# Altium integrated library Capacitors - Ceramic - 01005.IntLib: 571 symbols (part 3 of 13)
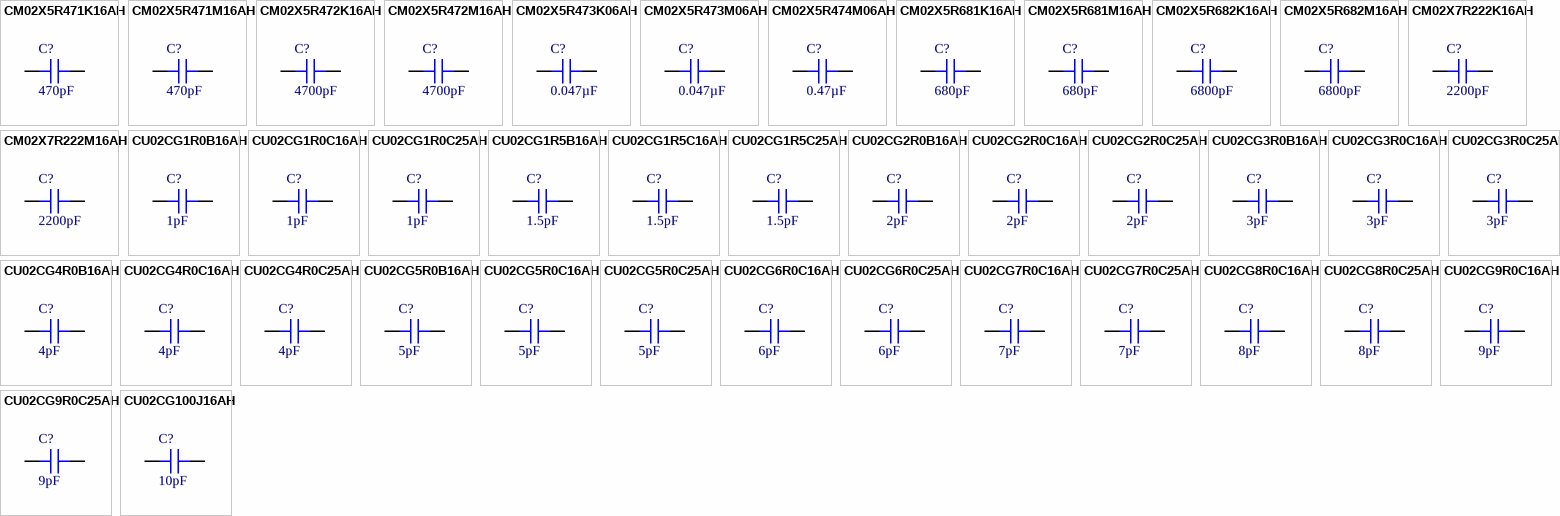
[diagram p16: symbols CM02X5R471K16AH to CU02CG100J16AH]

## CU02CG1R5B16AH
designator C?, comment 1.5pF
CAP CER 1.5PF 16V C0G 01005; Part Number: CU02CG1R5B16AH; Manufacturer: Kyocera International Inc. Electronic Components; Temperature Coefficient: C0G, NP0; Tolerance: ±0.1pF; Value: 1.5pF; Applications: RF, Microwave, High Frequency; Capacitance: 1.5pF; ComponentLink1Description: Datasheet; ComponentLink1URL: https://global.kyocera.com/prdct/electro/product/pdf/cm_e.pdf; ComponentLink2Description: DigiKey Link; ComponentLink2URL: http://digikey.com/product-detail/en/kyocera-international-inc-electronic-components/CU02CG1R5B16AH/1253-CU02CG1R5B16AHCT-ND/11564043; Device Package: 01005 (0402 Metric); Features: High Q, Low Loss; LastUpdated: 9/2/2020 1:27:42 AM; Lifecycle Status: Active; Minimum Order: 1; Mounting Type: Surface Mount, MLCC; Operating Temperature: -55°C ~ 125°C; Package / Case: 01005 (0402 Metric); Packaging: TapeAndReel; Part Status: Active; Price: 0.02; Series: CU; Supplier 1: DigiKey; Supplier Part Number 1: 1253-CU02CG1R5B16AHCT-ND; Voltage - Rated: 16V
footprint CAP 01005_0402
pins: 1, 2

## CU02CG1R5C16AH
designator C?, comment 1.5pF
CAP CER 1.5PF 16V C0G 01005; Part Number: CU02CG1R5C16AH; Manufacturer: Kyocera International Inc. Electronic Components; Temperature Coefficient: C0G, NP0; Tolerance: ±0.25pF; Value: 1.5pF; Applications: RF, Microwave, High Frequency; Capacitance: 1.5pF; ComponentLink1Description: Datasheet; ComponentLink1URL: https://global.kyocera.com/prdct/electro/product/pdf/cm_e.pdf; ComponentLink2Description: DigiKey Link; ComponentLink2URL: http://digikey.com/product-detail/en/kyocera-international-inc-electronic-components/CU02CG1R5C16AH/1253-CU02CG1R5C16AHCT-ND/11564116; Device Package: 01005 (0402 Metric); Features: High Q, Low Loss; LastUpdated: 9/2/2020 1:27:41 AM; Lifecycle Status: Active; Minimum Order: 1; Mounting Type: Surface Mount, MLCC; Operating Temperature: -55°C ~ 125°C; Package / Case: 01005 (0402 Metric); Packaging: TapeAndReel; Part Status: Active; Price: 0.01; Series: CU; Supplier 1: DigiKey; Supplier Part Number 1: 1253-CU02CG1R5C16AHCT-ND; Voltage - Rated: 16V
footprint CAP 01005_0402
pins: 1, 2

## CU02CG1R5C25AH
designator C?, comment 1.5pF
CAP CER 1.5PF 25V C0G 01005; Part Number: CU02CG1R5C25AH; Manufacturer: Kyocera International Inc. Electronic Components; Temperature Coefficient: C0G, NP0; Tolerance: ±0.25pF; Value: 1.5pF; Applications: RF, Microwave, High Frequency; Capacitance: 1.5pF; ComponentLink1Description: Datasheet; ComponentLink1URL: https://global.kyocera.com/prdct/electro/product/pdf/cm_e.pdf; ComponentLink2Description: DigiKey Link; ComponentLink2URL: http://digikey.com/product-detail/en/kyocera-international-inc-electronic-components/CU02CG1R5C25AH/1253-CU02CG1R5C25AHCT-ND/11564155; Device Package: 01005 (0402 Metric); Features: High Q, Low Loss; LastUpdated: 9/2/2020 1:27:41 AM; Lifecycle Status: Active; Minimum Order: 1; Mounting Type: Surface Mount, MLCC; Operating Temperature: -55°C ~ 125°C; Package / Case: 01005 (0402 Metric); Packaging: TapeAndReel; Part Status: Active; Price: 0.01; Series: CU; Supplier 1: DigiKey; Supplier Part Number 1: 1253-CU02CG1R5C25AHCT-ND; Voltage - Rated: 25V
footprint CAP 01005_0402
pins: 1, 2

## CU02CG2R0B16AH
designator C?, comment 2pF
CAP CER 2PF 16V C0G 01005; Part Number: CU02CG2R0B16AH; Manufacturer: Kyocera International Inc. Electronic Components; Temperature Coefficient: C0G, NP0; Tolerance: ±0.1pF; Value: 2pF; Applications: RF, Microwave, High Frequency; Capacitance: 2pF; ComponentLink1Description: Datasheet; ComponentLink1URL: https://global.kyocera.com/prdct/electro/product/pdf/cm_e.pdf; ComponentLink2Description: DigiKey Link; ComponentLink2URL: http://digikey.com/product-detail/en/kyocera-international-inc-electronic-components/CU02CG2R0B16AH/1253-CU02CG2R0B16AHCT-ND/11564125; Device Package: 01005 (0402 Metric); Features: High Q, Low Loss; LastUpdated: 9/2/2020 1:27:42 AM; Lifecycle Status: Active; Minimum Order: 1; Mounting Type: Surface Mount, MLCC; Operating Temperature: -55°C ~ 125°C; Package / Case: 01005 (0402 Metric); Packaging: TapeAndReel; Part Status: Active; Price: 0.02; Series: CU; Supplier 1: DigiKey; Supplier Part Number 1: 1253-CU02CG2R0B16AHCT-ND; Voltage - Rated: 16V
footprint CAP 01005_0402
pins: 1, 2

## CU02CG2R0C16AH
designator C?, comment 2pF
CAP CER 2PF 16V C0G 01005; Part Number: CU02CG2R0C16AH; Manufacturer: Kyocera International Inc. Electronic Components; Temperature Coefficient: C0G, NP0; Tolerance: ±0.25pF; Value: 2pF; Applications: RF, Microwave, High Frequency; Capacitance: 2pF; ComponentLink1Description: Datasheet; ComponentLink1URL: https://global.kyocera.com/prdct/electro/product/pdf/cm_e.pdf; ComponentLink2Description: DigiKey Link; ComponentLink2URL: http://digikey.com/product-detail/en/kyocera-international-inc-electronic-components/CU02CG2R0C16AH/1253-CU02CG2R0C16AHCT-ND/11563977; Device Package: 01005 (0402 Metric); Features: High Q, Low Loss; LastUpdated: 9/2/2020 1:27:41 AM; Lifecycle Status: Active; Minimum Order: 1; Mounting Type: Surface Mount, MLCC; Operating Temperature: -55°C ~ 125°C; Package / Case: 01005 (0402 Metric); Packaging: TapeAndReel; Part Status: Active; Price: 0.01; Series: CU; Supplier 1: DigiKey; Supplier Part Number 1: 1253-CU02CG2R0C16AHCT-ND; Voltage - Rated: 16V
footprint CAP 01005_0402
pins: 1, 2

## CU02CG2R0C25AH
designator C?, comment 2pF
CAP CER 2PF 25V C0G 01005; Part Number: CU02CG2R0C25AH; Manufacturer: Kyocera International Inc. Electronic Components; Temperature Coefficient: C0G, NP0; Tolerance: ±0.25pF; Value: 2pF; Applications: RF, Microwave, High Frequency; Capacitance: 2pF; ComponentLink1Description: Datasheet; ComponentLink1URL: https://global.kyocera.com/prdct/electro/product/pdf/cm_e.pdf; ComponentLink2Description: DigiKey Link; ComponentLink2URL: http://digikey.com/product-detail/en/kyocera-international-inc-electronic-components/CU02CG2R0C25AH/1253-CU02CG2R0C25AHCT-ND/11564131; Device Package: 01005 (0402 Metric); Features: High Q, Low Loss; LastUpdated: 9/2/2020 1:27:41 AM; Lifecycle Status: Active; Minimum Order: 1; Mounting Type: Surface Mount, MLCC; Operating Temperature: -55°C ~ 125°C; Package / Case: 01005 (0402 Metric); Packaging: TapeAndReel; Part Status: Active; Price: 0.01; Series: CU; Supplier 1: DigiKey; Supplier Part Number 1: 1253-CU02CG2R0C25AHCT-ND; Voltage - Rated: 25V
footprint CAP 01005_0402
pins: 1, 2

## CU02CG3R0B16AH
designator C?, comment 3pF
CAP CER 3PF 16V C0G 01005; Part Number: CU02CG3R0B16AH; Manufacturer: Kyocera International Inc. Electronic Components; Temperature Coefficient: C0G, NP0; Tolerance: ±0.1pF; Value: 3pF; Applications: RF, Microwave, High Frequency; Capacitance: 3pF; ComponentLink1Description: Datasheet; ComponentLink1URL: https://global.kyocera.com/prdct/electro/product/pdf/cm_e.pdf; ComponentLink2Description: DigiKey Link; ComponentLink2URL: http://digikey.com/product-detail/en/kyocera-international-inc-electronic-components/CU02CG3R0B16AH/1253-CU02CG3R0B16AHCT-ND/11564117; Device Package: 01005 (0402 Metric); Features: High Q, Low Loss; LastUpdated: 9/2/2020 1:27:42 AM; Lifecycle Status: Active; Minimum Order: 1; Mounting Type: Surface Mount, MLCC; Operating Temperature: -55°C ~ 125°C; Package / Case: 01005 (0402 Metric); Packaging: TapeAndReel; Part Status: Active; Price: 0.02; Series: CU; Supplier 1: DigiKey; Supplier Part Number 1: 1253-CU02CG3R0B16AHCT-ND; Voltage - Rated: 16V
footprint CAP 01005_0402
pins: 1, 2

## CU02CG3R0C16AH
designator C?, comment 3pF
CAP CER 3PF 16V C0G 01005; Part Number: CU02CG3R0C16AH; Manufacturer: Kyocera International Inc. Electronic Components; Temperature Coefficient: C0G, NP0; Tolerance: ±0.25pF; Value: 3pF; Applications: RF, Microwave, High Frequency; Capacitance: 3pF; ComponentLink1Description: Datasheet; ComponentLink1URL: https://global.kyocera.com/prdct/electro/product/pdf/cm_e.pdf; ComponentLink2Description: DigiKey Link; ComponentLink2URL: http://digikey.com/product-detail/en/kyocera-international-inc-electronic-components/CU02CG3R0C16AH/1253-CU02CG3R0C16AHCT-ND/11564017; Device Package: 01005 (0402 Metric); Features: High Q, Low Loss; LastUpdated: 9/2/2020 1:27:41 AM; Lifecycle Status: Active; Minimum Order: 1; Mounting Type: Surface Mount, MLCC; Operating Temperature: -55°C ~ 125°C; Package / Case: 01005 (0402 Metric); Packaging: TapeAndReel; Part Status: Active; Price: 0.01; Series: CU; Supplier 1: DigiKey; Supplier Part Number 1: 1253-CU02CG3R0C16AHCT-ND; Voltage - Rated: 16V
footprint CAP 01005_0402
pins: 1, 2

## CU02CG3R0C25AH
designator C?, comment 3pF
CAP CER 3PF 25V C0G 01005; Part Number: CU02CG3R0C25AH; Manufacturer: Kyocera International Inc. Electronic Components; Temperature Coefficient: C0G, NP0; Tolerance: ±0.25pF; Value: 3pF; Applications: RF, Microwave, High Frequency; Capacitance: 3pF; ComponentLink1Description: Datasheet; ComponentLink1URL: https://global.kyocera.com/prdct/electro/product/pdf/cm_e.pdf; ComponentLink2Description: DigiKey Link; ComponentLink2URL: http://digikey.com/product-detail/en/kyocera-international-inc-electronic-components/CU02CG3R0C25AH/1253-CU02CG3R0C25AHCT-ND/11564060; Device Package: 01005 (0402 Metric); Features: High Q, Low Loss; LastUpdated: 9/2/2020 1:27:41 AM; Lifecycle Status: Active; Minimum Order: 1; Mounting Type: Surface Mount, MLCC; Operating Temperature: -55°C ~ 125°C; Package / Case: 01005 (0402 Metric); Packaging: TapeAndReel; Part Status: Active; Price: 0.01; Series: CU; Supplier 1: DigiKey; Supplier Part Number 1: 1253-CU02CG3R0C25AHCT-ND; Voltage - Rated: 25V
footprint CAP 01005_0402
pins: 1, 2

## CU02CG4R0B16AH
designator C?, comment 4pF
CAP CER 4PF 16V C0G 01005; Part Number: CU02CG4R0B16AH; Manufacturer: Kyocera International Inc. Electronic Components; Temperature Coefficient: C0G, NP0; Tolerance: ±0.1pF; Value: 4pF; Applications: RF, Microwave, High Frequency; Capacitance: 4pF; ComponentLink1Description: Datasheet; ComponentLink1URL: https://global.kyocera.com/prdct/electro/product/pdf/cm_e.pdf; ComponentLink2Description: DigiKey Link; ComponentLink2URL: http://digikey.com/product-detail/en/kyocera-international-inc-electronic-components/CU02CG4R0B16AH/1253-CU02CG4R0B16AHCT-ND/11564143; Device Package: 01005 (0402 Metric); Features: High Q, Low Loss; LastUpdated: 9/2/2020 1:27:42 AM; Lifecycle Status: Active; Minimum Order: 1; Mounting Type: Surface Mount, MLCC; Operating Temperature: -55°C ~ 125°C; Package / Case: 01005 (0402 Metric); Packaging: TapeAndReel; Part Status: Active; Price: 0.02; Series: CU; Supplier 1: DigiKey; Supplier Part Number 1: 1253-CU02CG4R0B16AHCT-ND; Voltage - Rated: 16V
footprint CAP 01005_0402
pins: 1, 2

## CU02CG4R0C16AH
designator C?, comment 4pF
CAP CER 4PF 16V C0G 01005; Part Number: CU02CG4R0C16AH; Manufacturer: Kyocera International Inc. Electronic Components; Temperature Coefficient: C0G, NP0; Tolerance: ±0.25pF; Value: 4pF; Applications: RF, Microwave, High Frequency; Capacitance: 4pF; ComponentLink1Description: Datasheet; ComponentLink1URL: https://global.kyocera.com/prdct/electro/product/pdf/cm_e.pdf; ComponentLink2Description: DigiKey Link; ComponentLink2URL: http://digikey.com/product-detail/en/kyocera-international-inc-electronic-components/CU02CG4R0C16AH/1253-CU02CG4R0C16AHCT-ND/11564038; Device Package: 01005 (0402 Metric); Features: High Q, Low Loss; LastUpdated: 9/2/2020 1:27:41 AM; Lifecycle Status: Active; Minimum Order: 1; Mounting Type: Surface Mount, MLCC; Operating Temperature: -55°C ~ 125°C; Package / Case: 01005 (0402 Metric); Packaging: TapeAndReel; Part Status: Active; Price: 0.01; Series: CU; Supplier 1: DigiKey; Supplier Part Number 1: 1253-CU02CG4R0C16AHCT-ND; Voltage - Rated: 16V
footprint CAP 01005_0402
pins: 1, 2

## CU02CG4R0C25AH
designator C?, comment 4pF
CAP CER 4F 25V C0G 01005; Part Number: CU02CG4R0C25AH; Manufacturer: Kyocera International Inc. Electronic Components; Temperature Coefficient: C0G, NP0; Tolerance: ±0.25pF; Value: 4pF; Applications: RF, Microwave, High Frequency; Capacitance: 4pF; ComponentLink1Description: Datasheet; ComponentLink1URL: https://global.kyocera.com/prdct/electro/product/pdf/cm_e.pdf; ComponentLink2Description: DigiKey Link; ComponentLink2URL: http://digikey.com/product-detail/en/kyocera-international-inc-electronic-components/CU02CG4R0C25AH/1253-CU02CG4R0C25AHCT-ND/11564083; Device Package: 01005 (0402 Metric); Features: High Q, Low Loss; LastUpdated: 9/2/2020 1:27:41 AM; Lifecycle Status: Active; Minimum Order: 1; Mounting Type: Surface Mount, MLCC; Operating Temperature: -55°C ~ 125°C; Package / Case: 01005 (0402 Metric); Packaging: TapeAndReel; Part Status: Active; Price: 0.01; Series: CU; Supplier 1: DigiKey; Supplier Part Number 1: 1253-CU02CG4R0C25AHCT-ND; Voltage - Rated: 25V
footprint CAP 01005_0402
pins: 1, 2

## CU02CG5R0B16AH
designator C?, comment 5pF
CAP CER 5PF 16V C0G 01005; Part Number: CU02CG5R0B16AH; Manufacturer: Kyocera International Inc. Electronic Components; Temperature Coefficient: C0G, NP0; Tolerance: ±0.1pF; Value: 5pF; Applications: RF, Microwave, High Frequency; Capacitance: 5pF; ComponentLink1Description: Datasheet; ComponentLink1URL: https://global.kyocera.com/prdct/electro/product/pdf/cm_e.pdf; ComponentLink2Description: DigiKey Link; ComponentLink2URL: http://digikey.com/product-detail/en/kyocera-international-inc-electronic-components/CU02CG5R0B16AH/1253-CU02CG5R0B16AHCT-ND/11564102; Device Package: 01005 (0402 Metric); Features: High Q, Low Loss; LastUpdated: 9/2/2020 1:27:42 AM; Lifecycle Status: Active; Minimum Order: 1; Mounting Type: Surface Mount, MLCC; Operating Temperature: -55°C ~ 125°C; Package / Case: 01005 (0402 Metric); Packaging: TapeAndReel; Part Status: Active; Price: 0.02; Series: CU; Supplier 1: DigiKey; Supplier Part Number 1: 1253-CU02CG5R0B16AHCT-ND; Voltage - Rated: 16V
footprint CAP 01005_0402
pins: 1, 2

## CU02CG5R0C16AH
designator C?, comment 5pF
CAP CER 5PF 16V C0G 01005; Part Number: CU02CG5R0C16AH; Manufacturer: Kyocera International Inc. Electronic Components; Temperature Coefficient: C0G, NP0; Tolerance: ±0.25pF; Value: 5pF; Applications: RF, Microwave, High Frequency; Capacitance: 5pF; ComponentLink1Description: Datasheet; ComponentLink1URL: https://global.kyocera.com/prdct/electro/product/pdf/cm_e.pdf; ComponentLink2Description: DigiKey Link; ComponentLink2URL: http://digikey.com/product-detail/en/kyocera-international-inc-electronic-components/CU02CG5R0C16AH/1253-CU02CG5R0C16AHCT-ND/11563988; Device Package: 01005 (0402 Metric); Features: High Q, Low Loss; LastUpdated: 9/2/2020 1:27:41 AM; Lifecycle Status: Active; Minimum Order: 1; Mounting Type: Surface Mount, MLCC; Operating Temperature: -55°C ~ 125°C; Package / Case: 01005 (0402 Metric); Packaging: TapeAndReel; Part Status: Active; Price: 0.01; Series: CU; Supplier 1: DigiKey; Supplier Part Number 1: 1253-CU02CG5R0C16AHCT-ND; Voltage - Rated: 16V
footprint CAP 01005_0402
pins: 1, 2

## CU02CG5R0C25AH
designator C?, comment 5pF
CAP CER 5PF 25V C0G 01005; Part Number: CU02CG5R0C25AH; Manufacturer: Kyocera International Inc. Electronic Components; Temperature Coefficient: C0G, NP0; Tolerance: ±0.25pF; Value: 5pF; Applications: RF, Microwave, High Frequency; Capacitance: 5pF; ComponentLink1Description: Datasheet; ComponentLink1URL: https://global.kyocera.com/prdct/electro/product/pdf/cm_e.pdf; ComponentLink2Description: DigiKey Link; ComponentLink2URL: http://digikey.com/product-detail/en/kyocera-international-inc-electronic-components/CU02CG5R0C25AH/1253-CU02CG5R0C25AHCT-ND/11564111; Device Package: 01005 (0402 Metric); Features: High Q, Low Loss; LastUpdated: 9/2/2020 1:27:41 AM; Lifecycle Status: Active; Minimum Order: 1; Mounting Type: Surface Mount, MLCC; Operating Temperature: -55°C ~ 125°C; Package / Case: 01005 (0402 Metric); Packaging: TapeAndReel; Part Status: Active; Price: 0.01; Series: CU; Supplier 1: DigiKey; Supplier Part Number 1: 1253-CU02CG5R0C25AHCT-ND; Voltage - Rated: 25V
footprint CAP 01005_0402
pins: 1, 2

## CU02CG6R0C16AH
designator C?, comment 6pF
CAP CER 6PF 16V C0G 01005; Part Number: CU02CG6R0C16AH; Manufacturer: Kyocera International Inc. Electronic Components; Temperature Coefficient: C0G, NP0; Tolerance: ±0.25pF; Value: 6pF; Applications: RF, Microwave, High Frequency; Capacitance: 6pF; ComponentLink1Description: Datasheet; ComponentLink1URL: https://global.kyocera.com/prdct/electro/product/pdf/cm_e.pdf; ComponentLink2Description: DigiKey Link; ComponentLink2URL: http://digikey.com/product-detail/en/kyocera-international-inc-electronic-components/CU02CG6R0C16AH/1253-CU02CG6R0C16AHCT-ND/11564006; Device Package: 01005 (0402 Metric); Features: High Q, Low Loss; LastUpdated: 9/2/2020 1:27:41 AM; Lifecycle Status: Active; Minimum Order: 1; Mounting Type: Surface Mount, MLCC; Operating Temperature: -55°C ~ 125°C; Package / Case: 01005 (0402 Metric); Packaging: TapeAndReel; Part Status: Active; Price: 0.01; Series: CU; Supplier 1: DigiKey; Supplier Part Number 1: 1253-CU02CG6R0C16AHCT-ND; Voltage - Rated: 16V
footprint CAP 01005_0402
pins: 1, 2

## CU02CG6R0C25AH
designator C?, comment 6pF
CAP CER 6PF 25V C0G 01005; Part Number: CU02CG6R0C25AH; Manufacturer: Kyocera International Inc. Electronic Components; Temperature Coefficient: C0G, NP0; Tolerance: ±0.25pF; Value: 6pF; Applications: RF, Microwave, High Frequency; Capacitance: 6pF; ComponentLink1Description: Datasheet; ComponentLink1URL: https://global.kyocera.com/prdct/electro/product/pdf/cm_e.pdf; ComponentLink2Description: DigiKey Link; ComponentLink2URL: http://digikey.com/product-detail/en/kyocera-international-inc-electronic-components/CU02CG6R0C25AH/1253-CU02CG6R0C25AHCT-ND/11564146; Device Package: 01005 (0402 Metric); Features: High Q, Low Loss; LastUpdated: 9/2/2020 1:27:41 AM; Lifecycle Status: Active; Minimum Order: 1; Mounting Type: Surface Mount, MLCC; Operating Temperature: -55°C ~ 125°C; Package / Case: 01005 (0402 Metric); Packaging: TapeAndReel; Part Status: Active; Price: 0.01; Series: CU; Supplier 1: DigiKey; Supplier Part Number 1: 1253-CU02CG6R0C25AHCT-ND; Voltage - Rated: 25V
footprint CAP 01005_0402
pins: 1, 2

## CU02CG7R0C16AH
designator C?, comment 7pF
CAP CER 7PF 16V C0G 01005; Part Number: CU02CG7R0C16AH; Manufacturer: Kyocera International Inc. Electronic Components; Temperature Coefficient: C0G, NP0; Tolerance: ±0.25pF; Value: 7pF; Applications: RF, Microwave, High Frequency; Capacitance: 7pF; ComponentLink1Description: Datasheet; ComponentLink1URL: https://global.kyocera.com/prdct/electro/product/pdf/cm_e.pdf; ComponentLink2Description: DigiKey Link; ComponentLink2URL: http://digikey.com/product-detail/en/kyocera-international-inc-electronic-components/CU02CG7R0C16AH/1253-CU02CG7R0C16AHCT-ND/11564122; Device Package: 01005 (0402 Metric); Features: High Q, Low Loss; LastUpdated: 9/2/2020 1:27:41 AM; Lifecycle Status: Active; Minimum Order: 1; Mounting Type: Surface Mount, MLCC; Operating Temperature: -55°C ~ 125°C; Package / Case: 01005 (0402 Metric); Packaging: TapeAndReel; Part Status: Active; Price: 0.01; Series: CU; Supplier 1: DigiKey; Supplier Part Number 1: 1253-CU02CG7R0C16AHCT-ND; Voltage - Rated: 16V
footprint CAP 01005_0402
pins: 1, 2

## CU02CG7R0C25AH
designator C?, comment 7pF
CAP CER 7PF 25V C0G 01005; Part Number: CU02CG7R0C25AH; Manufacturer: Kyocera International Inc. Electronic Components; Temperature Coefficient: C0G, NP0; Tolerance: ±0.25pF; Value: 7pF; Applications: RF, Microwave, High Frequency; Capacitance: 7pF; ComponentLink1Description: Datasheet; ComponentLink1URL: https://global.kyocera.com/prdct/electro/product/pdf/cm_e.pdf; ComponentLink2Description: DigiKey Link; ComponentLink2URL: http://digikey.com/product-detail/en/kyocera-international-inc-electronic-components/CU02CG7R0C25AH/1253-CU02CG7R0C25AHCT-ND/11564057; Device Package: 01005 (0402 Metric); Features: High Q, Low Loss; LastUpdated: 9/2/2020 1:27:41 AM; Lifecycle Status: Active; Minimum Order: 1; Mounting Type: Surface Mount, MLCC; Operating Temperature: -55°C ~ 125°C; Package / Case: 01005 (0402 Metric); Packaging: TapeAndReel; Part Status: Active; Price: 0.01; Series: CU; Supplier 1: DigiKey; Supplier Part Number 1: 1253-CU02CG7R0C25AHCT-ND; Voltage - Rated: 25V
footprint CAP 01005_0402
pins: 1, 2

## CU02CG8R0C16AH
designator C?, comment 8pF
CAP CER 8PF 16V C0G 01005; Part Number: CU02CG8R0C16AH; Manufacturer: Kyocera International Inc. Electronic Components; Temperature Coefficient: C0G, NP0; Tolerance: ±0.25pF; Value: 8pF; Applications: RF, Microwave, High Frequency; Capacitance: 8pF; ComponentLink1Description: Datasheet; ComponentLink1URL: https://global.kyocera.com/prdct/electro/product/pdf/cm_e.pdf; ComponentLink2Description: DigiKey Link; ComponentLink2URL: http://digikey.com/product-detail/en/kyocera-international-inc-electronic-components/CU02CG8R0C16AH/1253-CU02CG8R0C16AHCT-ND/11564003; Device Package: 01005 (0402 Metric); Features: High Q, Low Loss; LastUpdated: 9/2/2020 1:27:41 AM; Lifecycle Status: Active; Minimum Order: 1; Mounting Type: Surface Mount, MLCC; Operating Temperature: -55°C ~ 125°C; Package / Case: 01005 (0402 Metric); Packaging: TapeAndReel; Part Status: Active; Price: 0.01; Series: CU; Supplier 1: DigiKey; Supplier Part Number 1: 1253-CU02CG8R0C16AHCT-ND; Voltage - Rated: 16V
footprint CAP 01005_0402
pins: 1, 2

## CU02CG8R0C25AH
designator C?, comment 8pF
CAP CER 8PF 25V C0G 01005; Part Number: CU02CG8R0C25AH; Manufacturer: Kyocera International Inc. Electronic Components; Temperature Coefficient: C0G, NP0; Tolerance: ±0.25pF; Value: 8pF; Applications: RF, Microwave, High Frequency; Capacitance: 8pF; ComponentLink1Description: Datasheet; ComponentLink1URL: https://global.kyocera.com/prdct/electro/product/pdf/cm_e.pdf; ComponentLink2Description: DigiKey Link; ComponentLink2URL: http://digikey.com/product-detail/en/kyocera-international-inc-electronic-components/CU02CG8R0C25AH/1253-CU02CG8R0C25AHCT-ND/11564075; Device Package: 01005 (0402 Metric); Features: High Q, Low Loss; LastUpdated: 9/2/2020 1:27:41 AM; Lifecycle Status: Active; Minimum Order: 1; Mounting Type: Surface Mount, MLCC; Operating Temperature: -55°C ~ 125°C; Package / Case: 01005 (0402 Metric); Packaging: TapeAndReel; Part Status: Active; Price: 0.01; Series: CU; Supplier 1: DigiKey; Supplier Part Number 1: 1253-CU02CG8R0C25AHCT-ND; Voltage - Rated: 25V
footprint CAP 01005_0402
pins: 1, 2

## CU02CG9R0C16AH
designator C?, comment 9pF
CAP CER 9PF 16V C0G 01005; Part Number: CU02CG9R0C16AH; Manufacturer: Kyocera International Inc. Electronic Components; Temperature Coefficient: C0G, NP0; Tolerance: ±0.25pF; Value: 9pF; Applications: RF, Microwave, High Frequency; Capacitance: 9pF; ComponentLink1Description: Datasheet; ComponentLink1URL: https://global.kyocera.com/prdct/electro/product/pdf/cm_e.pdf; ComponentLink2Description: DigiKey Link; ComponentLink2URL: http://digikey.com/product-detail/en/kyocera-international-inc-electronic-components/CU02CG9R0C16AH/1253-CU02CG9R0C16AHCT-ND/11564150; Device Package: 01005 (0402 Metric); Features: High Q, Low Loss; LastUpdated: 9/2/2020 1:27:41 AM; Lifecycle Status: Active; Minimum Order: 1; Mounting Type: Surface Mount, MLCC; Operating Temperature: -55°C ~ 125°C; Package / Case: 01005 (0402 Metric); Packaging: TapeAndReel; Part Status: Active; Price: 0.01; Series: CU; Supplier 1: DigiKey; Supplier Part Number 1: 1253-CU02CG9R0C16AHCT-ND; Voltage - Rated: 16V
footprint CAP 01005_0402
pins: 1, 2

## CU02CG9R0C25AH
designator C?, comment 9pF
CAP CER 9PF 25V C0G 01005; Part Number: CU02CG9R0C25AH; Manufacturer: Kyocera International Inc. Electronic Components; Temperature Coefficient: C0G, NP0; Tolerance: ±0.25pF; Value: 9pF; Applications: RF, Microwave, High Frequency; Capacitance: 9pF; ComponentLink1Description: Datasheet; ComponentLink1URL: https://global.kyocera.com/prdct/electro/product/pdf/cm_e.pdf; ComponentLink2Description: DigiKey Link; ComponentLink2URL: http://digikey.com/product-detail/en/kyocera-international-inc-electronic-components/CU02CG9R0C25AH/1253-CU02CG9R0C25AHCT-ND/11564082; Device Package: 01005 (0402 Metric); Features: High Q, Low Loss; LastUpdated: 9/2/2020 1:27:41 AM; Lifecycle Status: Active; Minimum Order: 1; Mounting Type: Surface Mount, MLCC; Operating Temperature: -55°C ~ 125°C; Package / Case: 01005 (0402 Metric); Packaging: TapeAndReel; Part Status: Active; Price: 0.01; Series: CU; Supplier 1: DigiKey; Supplier Part Number 1: 1253-CU02CG9R0C25AHCT-ND; Voltage - Rated: 25V
footprint CAP 01005_0402
pins: 1, 2

## CU02CG100J16AH
designator C?, comment 10pF
CAP CER 10PF 16V C0G 01005; Part Number: CU02CG100J16AH; Manufacturer: Kyocera International Inc. Electronic Components; Temperature Coefficient: C0G, NP0; Tolerance: ±5%; Value: 10pF; Applications: RF, Microwave, High Frequency; Capacitance: 10pF; ComponentLink1Description: Datasheet; ComponentLink1URL: https://global.kyocera.com/prdct/electro/product/pdf/cm_e.pdf; ComponentLink2Description: DigiKey Link; ComponentLink2URL: http://digikey.com/product-detail/en/kyocera-international-inc-electronic-components/CU02CG100J16AH/1253-CU02CG100J16AHCT-ND/11564154; Device Package: 01005 (0402 Metric); Features: High Q, Low Loss; LastUpdated: 9/2/2020 1:27:41 AM; Lifecycle Status: Active; Minimum Order: 1; Mounting Type: Surface Mount, MLCC; Operating Temperature: -55°C ~ 125°C; Package / Case: 01005 (0402 Metric); Packaging: TapeAndReel; Part Status: Active; Price: 0.01; Series: CU; Supplier 1: DigiKey; Supplier Part Number 1: 1253-CU02CG100J16AHCT-ND; Voltage - Rated: 16V
footprint CAP 01005_0402
pins: 1, 2

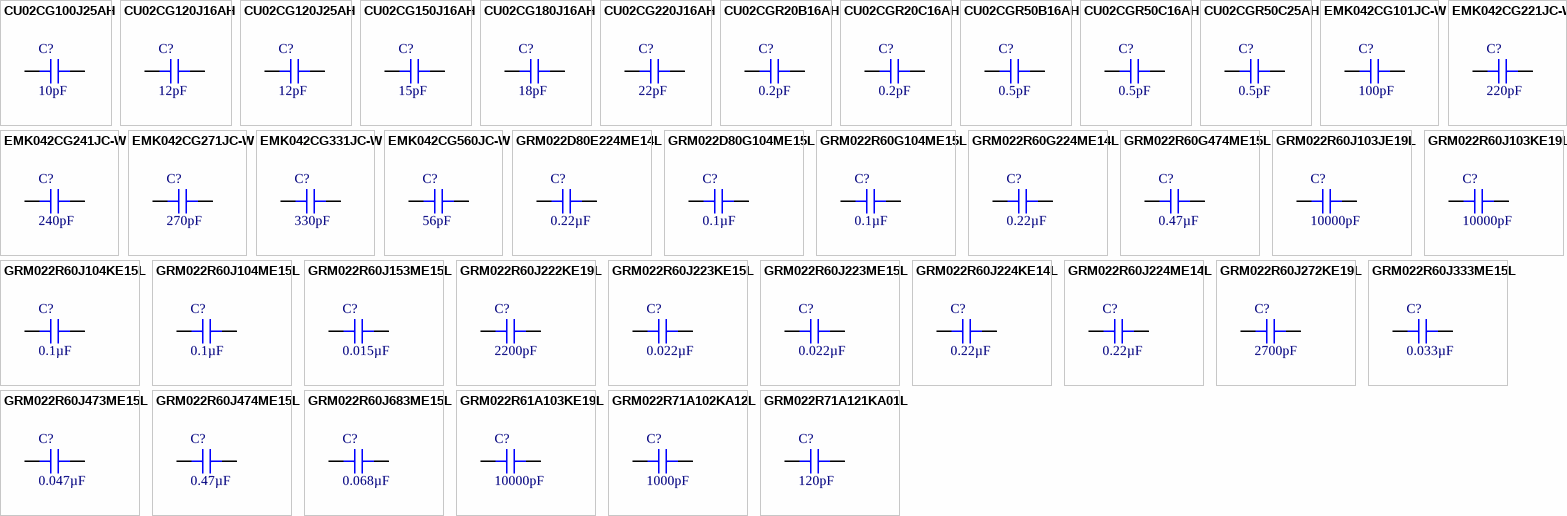
[diagram p3: symbols CU02CG100J25AH to GRM022R71A121KA01L]

## CU02CG100J25AH
designator C?, comment 10pF
CAP CER 10PF 25V C0G 01005; Part Number: CU02CG100J25AH; Manufacturer: Kyocera International Inc. Electronic Components; Temperature Coefficient: C0G, NP0; Tolerance: ±5%; Value: 10pF; Applications: RF, Microwave, High Frequency; Capacitance: 10pF; ComponentLink1Description: Datasheet; ComponentLink1URL: https://global.kyocera.com/prdct/electro/product/pdf/cm_e.pdf; ComponentLink2Description: DigiKey Link; ComponentLink2URL: http://digikey.com/product-detail/en/kyocera-international-inc-electronic-components/CU02CG100J25AH/1253-CU02CG100J25AHCT-ND/11564067; Device Package: 01005 (0402 Metric); Features: High Q, Low Loss; LastUpdated: 9/2/2020 1:27:41 AM; Lifecycle Status: Active; Minimum Order: 1; Mounting Type: Surface Mount, MLCC; Operating Temperature: -55°C ~ 125°C; Package / Case: 01005 (0402 Metric); Packaging: TapeAndReel; Part Status: Active; Price: 0.01; Series: CU; Supplier 1: DigiKey; Supplier Part Number 1: 1253-CU02CG100J25AHCT-ND; Voltage - Rated: 25V
footprint CAP 01005_0402
pins: 1, 2

## CU02CG120J16AH
designator C?, comment 12pF
CAP CER 10PF 25V C0G 01005; Part Number: CU02CG120J16AH; Manufacturer: Kyocera International Inc. Electronic Components; Temperature Coefficient: C0G, NP0; Tolerance: ±5%; Voltage - Rated: 16V; Value: 12pF; Applications: RF, Microwave, High Frequency; Capacitance: 12pF; ComponentLink1Description: Datasheet; ComponentLink1URL: https://global.kyocera.com/prdct/electro/product/pdf/cm_e.pdf; ComponentLink2Description: DigiKey Link; ComponentLink2URL: http://digikey.com/product-detail/en/kyocera-international-inc-electronic-components/CU02CG120J16AH/1253-CU02CG120J16AHCT-ND/11564036; Device Package: 01005 (0402 Metric); Features: High Q, Low Loss; LastUpdated: 9/2/2020 1:27:41 AM; Lifecycle Status: Active; Minimum Order: 1; Mounting Type: Surface Mount, MLCC; Operating Temperature: -55°C ~ 125°C; Package / Case: 01005 (0402 Metric); Packaging: TapeAndReel; Part Status: Active; Price: 0.01; Series: CU; Supplier 1: DigiKey; Supplier Part Number 1: 1253-CU02CG120J16AHCT-ND
footprint CAP 01005_0402
pins: 1, 2

## CU02CG120J25AH
designator C?, comment 12pF
CAP CER 12PF 25V C0G 01005; Part Number: CU02CG120J25AH; Manufacturer: Kyocera International Inc. Electronic Components; Temperature Coefficient: C0G, NP0; Tolerance: ±5%; Value: 12pF; Applications: RF, Microwave, High Frequency; Capacitance: 12pF; ComponentLink1Description: Datasheet; ComponentLink1URL: https://global.kyocera.com/prdct/electro/product/pdf/cm_e.pdf; ComponentLink2Description: DigiKey Link; ComponentLink2URL: http://digikey.com/product-detail/en/kyocera-international-inc-electronic-components/CU02CG120J25AH/1253-CU02CG120J25AHCT-ND/11564164; Device Package: 01005 (0402 Metric); Features: High Q, Low Loss; LastUpdated: 9/2/2020 1:27:41 AM; Lifecycle Status: Active; Minimum Order: 1; Mounting Type: Surface Mount, MLCC; Operating Temperature: -55°C ~ 125°C; Package / Case: 01005 (0402 Metric); Packaging: TapeAndReel; Part Status: Active; Price: 0.01; Series: CU; Supplier 1: DigiKey; Supplier Part Number 1: 1253-CU02CG120J25AHCT-ND; Voltage - Rated: 25V
footprint CAP 01005_0402
pins: 1, 2

## CU02CG150J16AH
designator C?, comment 15pF
CAP CER 15PF 16V C0G 01005; Part Number: CU02CG150J16AH; Manufacturer: Kyocera International Inc. Electronic Components; Temperature Coefficient: C0G, NP0; Tolerance: ±5%; Value: 15pF; Applications: RF, Microwave, High Frequency; Capacitance: 15pF; ComponentLink1Description: Datasheet; ComponentLink1URL: https://global.kyocera.com/prdct/electro/product/pdf/cm_e.pdf; ComponentLink2Description: DigiKey Link; ComponentLink2URL: http://digikey.com/product-detail/en/kyocera-international-inc-electronic-components/CU02CG150J16AH/1253-CU02CG150J16AHCT-ND/11564147; Device Package: 01005 (0402 Metric); Features: High Q, Low Loss; LastUpdated: 9/2/2020 1:27:41 AM; Lifecycle Status: Active; Minimum Order: 1; Mounting Type: Surface Mount, MLCC; Operating Temperature: -55°C ~ 125°C; Package / Case: 01005 (0402 Metric); Packaging: TapeAndReel; Part Status: Active; Price: 0.01; Series: CU; Supplier 1: DigiKey; Supplier Part Number 1: 1253-CU02CG150J16AHCT-ND; Voltage - Rated: 16V
footprint CAP 01005_0402
pins: 1, 2

## CU02CG180J16AH
designator C?, comment 18pF
CAP CER 18PF 16V C0G 01005; Part Number: CU02CG180J16AH; Manufacturer: Kyocera International Inc. Electronic Components; Temperature Coefficient: C0G, NP0; Tolerance: ±5%; Value: 18pF; Applications: RF, Microwave, High Frequency; Capacitance: 18pF; ComponentLink1Description: Datasheet; ComponentLink1URL: https://global.kyocera.com/prdct/electro/product/pdf/cm_e.pdf; ComponentLink2Description: DigiKey Link; ComponentLink2URL: http://digikey.com/product-detail/en/kyocera-international-inc-electronic-components/CU02CG180J16AH/1253-CU02CG180J16AHCT-ND/11564134; Device Package: 01005 (0402 Metric); Features: High Q, Low Loss; LastUpdated: 9/2/2020 1:27:41 AM; Lifecycle Status: Active; Minimum Order: 1; Mounting Type: Surface Mount, MLCC; Operating Temperature: -55°C ~ 125°C; Package / Case: 01005 (0402 Metric); Packaging: TapeAndReel; Part Status: Active; Price: 0.01; Series: CU; Supplier 1: DigiKey; Supplier Part Number 1: 1253-CU02CG180J16AHCT-ND; Voltage - Rated: 16V
footprint CAP 01005_0402
pins: 1, 2

## CU02CG220J16AH
designator C?, comment 22pF
CAP CER 22PF 16V C0G 01005; Part Number: CU02CG220J16AH; Manufacturer: Kyocera International Inc. Electronic Components; Temperature Coefficient: C0G, NP0; Tolerance: ±5%; Value: 22pF; Applications: RF, Microwave, High Frequency; Capacitance: 22pF; ComponentLink1Description: Datasheet; ComponentLink1URL: https://global.kyocera.com/prdct/electro/product/pdf/cm_e.pdf; ComponentLink2Description: DigiKey Link; ComponentLink2URL: http://digikey.com/product-detail/en/kyocera-international-inc-electronic-components/CU02CG220J16AH/1253-CU02CG220J16AHCT-ND/11563996; Device Package: 01005 (0402 Metric); Features: High Q, Low Loss; LastUpdated: 9/2/2020 1:27:41 AM; Lifecycle Status: Active; Minimum Order: 1; Mounting Type: Surface Mount, MLCC; Operating Temperature: -55°C ~ 125°C; Package / Case: 01005 (0402 Metric); Packaging: TapeAndReel; Part Status: Active; Price: 0.01; Series: CU; Supplier 1: DigiKey; Supplier Part Number 1: 1253-CU02CG220J16AHCT-ND; Voltage - Rated: 16V
footprint CAP 01005_0402
pins: 1, 2

## CU02CGR20B16AH
designator C?, comment 0.2pF
CAP CER 0.2PF 16V C0G 01005; Part Number: CU02CGR20B16AH; Manufacturer: Kyocera International Inc. Electronic Components; Temperature Coefficient: C0G, NP0; Tolerance: ±0.1pF; Value: 0.2pF; Applications: RF, Microwave, High Frequency; Capacitance: 0.2pF; ComponentLink1Description: Datasheet; ComponentLink1URL: https://global.kyocera.com/prdct/electro/product/pdf/cm_e.pdf; ComponentLink2Description: DigiKey Link; ComponentLink2URL: http://digikey.com/product-detail/en/kyocera-international-inc-electronic-components/CU02CGR20B16AH/1253-CU02CGR20B16AHCT-ND/11564044; Device Package: 01005 (0402 Metric); Features: High Q, Low Loss; LastUpdated: 9/2/2020 1:27:42 AM; Lifecycle Status: Active; Minimum Order: 1; Mounting Type: Surface Mount, MLCC; Operating Temperature: -55°C ~ 125°C; Package / Case: 01005 (0402 Metric); Packaging: TapeAndReel; Part Status: Active; Price: 0.02; Series: CU; Supplier 1: DigiKey; Supplier Part Number 1: 1253-CU02CGR20B16AHCT-ND; Voltage - Rated: 16V
footprint CAP 01005_0402
pins: 1, 2

## CU02CGR20C16AH
designator C?, comment 0.2pF
CAP CER 0.2PF 16V C0G 01005; Part Number: CU02CGR20C16AH; Manufacturer: Kyocera International Inc. Electronic Components; Temperature Coefficient: C0G, NP0; Tolerance: ±0.25pF; Value: 0.2pF; Applications: RF, Microwave, High Frequency; Capacitance: 0.2pF; ComponentLink1Description: Datasheet; ComponentLink1URL: https://global.kyocera.com/prdct/electro/product/pdf/cm_e.pdf; ComponentLink2Description: DigiKey Link; ComponentLink2URL: http://digikey.com/product-detail/en/kyocera-international-inc-electronic-components/CU02CGR20C16AH/1253-CU02CGR20C16AHCT-ND/11564022; Device Package: 01005 (0402 Metric); Features: High Q, Low Loss; LastUpdated: 9/2/2020 1:27:41 AM; Lifecycle Status: Active; Minimum Order: 1; Mounting Type: Surface Mount, MLCC; Operating Temperature: -55°C ~ 125°C; Package / Case: 01005 (0402 Metric); Packaging: TapeAndReel; Part Status: Active; Price: 0.01; Series: CU; Supplier 1: DigiKey; Supplier Part Number 1: 1253-CU02CGR20C16AHCT-ND; Voltage - Rated: 16V
footprint CAP 01005_0402
pins: 1, 2

## CU02CGR50B16AH
designator C?, comment 0.5pF
CAP CER 0.5PF 16V C0G 01005; Part Number: CU02CGR50B16AH; Manufacturer: Kyocera International Inc. Electronic Components; Temperature Coefficient: C0G, NP0; Tolerance: ±0.1pF; Value: 0.5pF; Applications: RF, Microwave, High Frequency; Capacitance: 0.5pF; ComponentLink1Description: Datasheet; ComponentLink1URL: https://global.kyocera.com/prdct/electro/product/pdf/cm_e.pdf; ComponentLink2Description: DigiKey Link; ComponentLink2URL: http://digikey.com/product-detail/en/kyocera-international-inc-electronic-components/CU02CGR50B16AH/1253-CU02CGR50B16AHCT-ND/11564084; Device Package: 01005 (0402 Metric); Features: High Q, Low Loss; LastUpdated: 9/2/2020 1:27:42 AM; Lifecycle Status: Active; Minimum Order: 1; Mounting Type: Surface Mount, MLCC; Operating Temperature: -55°C ~ 125°C; Package / Case: 01005 (0402 Metric); Packaging: TapeAndReel; Part Status: Active; Price: 0.02; Series: CU; Supplier 1: DigiKey; Supplier Part Number 1: 1253-CU02CGR50B16AHCT-ND; Voltage - Rated: 16V
footprint CAP 01005_0402
pins: 1, 2

## CU02CGR50C16AH
designator C?, comment 0.5pF
CAP CER 0.5PF 16V C0G 01005; Part Number: CU02CGR50C16AH; Manufacturer: Kyocera International Inc. Electronic Components; Temperature Coefficient: C0G, NP0; Tolerance: ±0.25pF; Value: 0.5pF; Applications: RF, Microwave, High Frequency; Capacitance: 0.5pF; ComponentLink1Description: Datasheet; ComponentLink1URL: https://global.kyocera.com/prdct/electro/product/pdf/cm_e.pdf; ComponentLink2Description: DigiKey Link; ComponentLink2URL: http://digikey.com/product-detail/en/kyocera-international-inc-electronic-components/CU02CGR50C16AH/1253-CU02CGR50C16AHCT-ND/11564114; Device Package: 01005 (0402 Metric); Features: High Q, Low Loss; LastUpdated: 9/2/2020 1:27:41 AM; Lifecycle Status: Active; Minimum Order: 1; Mounting Type: Surface Mount, MLCC; Operating Temperature: -55°C ~ 125°C; Package / Case: 01005 (0402 Metric); Packaging: TapeAndReel; Part Status: Active; Price: 0.01; Series: CU; Supplier 1: DigiKey; Supplier Part Number 1: 1253-CU02CGR50C16AHCT-ND; Voltage - Rated: 16V
footprint CAP 01005_0402
pins: 1, 2

## CU02CGR50C25AH
designator C?, comment 0.5pF
CAP CER 0.5PF 25V C0G 01005; Part Number: CU02CGR50C25AH; Manufacturer: Kyocera International Inc. Electronic Components; Temperature Coefficient: C0G, NP0; Tolerance: ±0.25pF; Value: 0.5pF; Applications: RF, Microwave, High Frequency; Capacitance: 0.5pF; ComponentLink1Description: Datasheet; ComponentLink1URL: https://global.kyocera.com/prdct/electro/product/pdf/cm_e.pdf; ComponentLink2Description: DigiKey Link; ComponentLink2URL: http://digikey.com/product-detail/en/kyocera-international-inc-electronic-components/CU02CGR50C25AH/1253-CU02CGR50C25AHCT-ND/11564120; Device Package: 01005 (0402 Metric); Features: High Q, Low Loss; LastUpdated: 9/2/2020 1:27:41 AM; Lifecycle Status: Active; Minimum Order: 1; Mounting Type: Surface Mount, MLCC; Operating Temperature: -55°C ~ 125°C; Package / Case: 01005 (0402 Metric); Packaging: TapeAndReel; Part Status: Active; Price: 0.01; Series: CU; Supplier 1: DigiKey; Supplier Part Number 1: 1253-CU02CGR50C25AHCT-ND; Voltage - Rated: 25V
footprint CAP 01005_0402
pins: 1, 2

## EMK042CG101JC-W
designator C?, comment 100pF
CAP CER 100PF 16V C0G 01005; Part Number: EMK042CG101JC-W; Manufacturer: Taiyo Yuden; Temperature Coefficient: C0G, NP0; Tolerance: ±5%; Value: 100pF; Applications: General Purpose; Capacitance: 100pF; ComponentLink1Description: Datasheet; ComponentLink1URL: https://ds.yuden.co.jp/TYCOMPAS/ut/detail?pn=EMK042CG101JC-W &u=M; ComponentLink2Description: DigiKey Link; ComponentLink2URL: http://digikey.com/product-detail/en/taiyo-yuden/EMK042CG101JC-W/587-6133-1-ND/8619536; Device Package: 01005 (0402 Metric); LastUpdated: 9/2/2020 1:27:43 AM; Lifecycle Status: Active; Minimum Order: 1; Mounting Type: Surface Mount, MLCC; Operating Temperature: -55°C ~ 125°C; Package / Case: 01005 (0402 Metric); Packaging: TapeAndReel; Part Status: Active; Price: 0.01; Series: M; Size / Dimension: 0.016" L x 0.008" W (0.40mm x 0.20mm); Supplier 1: DigiKey; Supplier Part Number 1: 587-6133-1-ND; Thickness (Max): 0.009" (0.22mm); Voltage - Rated: 16V
footprint CAP 01005_0402
pins: 1, 2

## EMK042CG221JC-W
designator C?, comment 220pF
CAP CER 220PF 16V C0G/NP0 1005; Part Number: EMK042CG221JC-W; Manufacturer: Taiyo Yuden; Temperature Coefficient: C0G, NP0; Tolerance: ±5%; Value: 220pF; Applications: General Purpose; Capacitance: 220pF; ComponentLink1Description: Datasheet; ComponentLink1URL: https://ds.yuden.co.jp/TYCOMPAS/ut/detail?pn=EMK042CG221JC-W &u=M; ComponentLink2Description: DigiKey Link; ComponentLink2URL: http://digikey.com/product-detail/en/taiyo-yuden/EMK042CG221JC-W/587-6215-1-ND/9563144; Device Package: 01005 (0402 Metric); LastUpdated: 9/2/2020 1:27:43 AM; Lifecycle Status: Active; Minimum Order: 1; Mounting Type: Surface Mount, MLCC; Operating Temperature: -55°C ~ 125°C; Package / Case: 01005 (0402 Metric); Packaging: TapeAndReel; Part Status: Active; Price: 0.01; Series: M; Size / Dimension: 0.016" L x 0.008" W (0.40mm x 0.20mm); Supplier 1: DigiKey; Supplier Part Number 1: 587-6215-1-ND; Thickness (Max): 0.009" (0.22mm); Voltage - Rated: 16V
footprint CAP 01005_0402
pins: 1, 2

## EMK042CG241JC-W
designator C?, comment 240pF
CAP CER 240PF 16V C0G/NP0 1005; Part Number: EMK042CG241JC-W; Manufacturer: Taiyo Yuden; Temperature Coefficient: C0G, NP0; Tolerance: ±5%; Value: 240pF; Applications: General Purpose; Capacitance: 240pF; ComponentLink1Description: Datasheet; ComponentLink1URL: https://ds.yuden.co.jp/TYCOMPAS/ut/detail?pn=EMK042CG241JC-W &u=M; ComponentLink2Description: DigiKey Link; ComponentLink2URL: http://digikey.com/product-detail/en/taiyo-yuden/EMK042CG241JC-W/587-6216-1-ND/9563145; Device Package: 01005 (0402 Metric); LastUpdated: 9/2/2020 1:27:43 AM; Lifecycle Status: Active; Minimum Order: 1; Mounting Type: Surface Mount, MLCC; Operating Temperature: -55°C ~ 125°C; Package / Case: 01005 (0402 Metric); Packaging: TapeAndReel; Part Status: Active; Price: 0.01; Series: M; Size / Dimension: 0.016" L x 0.008" W (0.40mm x 0.20mm); Supplier 1: DigiKey; Supplier Part Number 1: 587-6216-1-ND; Thickness (Max): 0.009" (0.22mm); Voltage - Rated: 16V
footprint CAP 01005_0402
pins: 1, 2

## EMK042CG271JC-W
designator C?, comment 270pF
CAP CER 270PF 16V C0G/NP0 1005; Part Number: EMK042CG271JC-W; Manufacturer: Taiyo Yuden; Temperature Coefficient: C0G, NP0; Tolerance: ±5%; Value: 270pF; Applications: General Purpose; Capacitance: 270pF; ComponentLink1Description: Datasheet; ComponentLink1URL: https://ds.yuden.co.jp/TYCOMPAS/ut/detail?pn=EMK042CG271JC-W &u=M; ComponentLink2Description: DigiKey Link; ComponentLink2URL: http://digikey.com/product-detail/en/taiyo-yuden/EMK042CG271JC-W/587-6217-1-ND/9563146; Device Package: 01005 (0402 Metric); LastUpdated: 9/2/2020 1:27:43 AM; Lifecycle Status: Active; Minimum Order: 1; Mounting Type: Surface Mount, MLCC; Operating Temperature: -55°C ~ 125°C; Package / Case: 01005 (0402 Metric); Packaging: TapeAndReel; Part Status: Active; Price: 0.01; Series: M; Size / Dimension: 0.016" L x 0.008" W (0.40mm x 0.20mm); Supplier 1: DigiKey; Supplier Part Number 1: 587-6217-1-ND; Thickness (Max): 0.009" (0.22mm); Voltage - Rated: 16V
footprint CAP 01005_0402
pins: 1, 2

## EMK042CG331JC-W
designator C?, comment 330pF
CAP CER 330PF 16V C0G/NP0 1005; Part Number: EMK042CG331JC-W; Manufacturer: Taiyo Yuden; Temperature Coefficient: C0G, NP0; Tolerance: ±5%; Value: 330pF; Applications: General Purpose; Capacitance: 330pF; ComponentLink1Description: Datasheet; ComponentLink1URL: https://ds.yuden.co.jp/TYCOMPAS/ut/detail?pn=EMK042CG331JC-W &u=M; ComponentLink2Description: DigiKey Link; ComponentLink2URL: http://digikey.com/product-detail/en/taiyo-yuden/EMK042CG331JC-W/587-6218-1-ND/9563147; Device Package: 01005 (0402 Metric); LastUpdated: 9/2/2020 1:27:43 AM; Lifecycle Status: Active; Minimum Order: 1; Mounting Type: Surface Mount, MLCC; Operating Temperature: -55°C ~ 125°C; Package / Case: 01005 (0402 Metric); Packaging: TapeAndReel; Part Status: Active; Price: 0.01; Series: M; Size / Dimension: 0.016" L x 0.008" W (0.40mm x 0.20mm); Supplier 1: DigiKey; Supplier Part Number 1: 587-6218-1-ND; Thickness (Max): 0.009" (0.22mm); Voltage - Rated: 16V
footprint CAP 01005_0402
pins: 1, 2

## EMK042CG560JC-W
designator C?, comment 56pF
CAP CER 56PF 16V C0G 01005; Part Number: EMK042CG560JC-W; Manufacturer: Taiyo Yuden; Temperature Coefficient: C0G, NP0; Tolerance: ±5%; Value: 56pF; Applications: General Purpose; Capacitance: 56pF; ComponentLink1Description: Datasheet; ComponentLink1URL: https://ds.yuden.co.jp/TYCOMPAS/ut/detail?pn=EMK042CG560JC-W &u=M; ComponentLink2Description: DigiKey Link; ComponentLink2URL: http://digikey.com/product-detail/en/taiyo-yuden/EMK042CG560JC-W/587-6134-1-ND/8619537; Device Package: 01005 (0402 Metric); LastUpdated: 9/2/2020 1:27:44 AM; Lifecycle Status: Active; Minimum Order: 1; Mounting Type: Surface Mount, MLCC; Operating Temperature: -55°C ~ 125°C; Package / Case: 01005 (0402 Metric); Packaging: TapeAndReel; Part Status: Active; Price: 0.01; Series: M; Size / Dimension: 0.016" L x 0.008" W (0.40mm x 0.20mm); Supplier 1: DigiKey; Supplier Part Number 1: 587-6134-1-ND; Thickness (Max): 0.009" (0.22mm); Voltage - Rated: 16V
footprint CAP 01005_0402
pins: 1, 2

## GRM022D80E224ME14L
designator C?, comment 0.22µF
CAP CER 0.22UF 2.5V X6T 01005; Part Number: GRM022D80E224ME14L; Manufacturer: Murata Electronics; Tolerance: ±20%; Value: 0.22µF; Applications: General Purpose; Capacitance: 0.22µF; ComponentLink1Description: Datasheet; ComponentLink1URL: https://www.murata.com/~/media/webrenewal/support/library/catalog/products/capacitor/mlcc/c02e.ashx?la=en-us; ComponentLink2Description: DigiKey Link; ComponentLink2URL: http://digikey.com/product-detail/en/murata-electronics/GRM022D80E224ME14L/490-13212-1-ND/5877420; Device Package: 01005 (0402 Metric); LastUpdated: 9/2/2020 1:27:42 AM; Lifecycle Status: Active; Minimum Order: 1; Mounting Type: Surface Mount, MLCC; Operating Temperature: -55°C ~ 105°C; Package / Case: 01005 (0402 Metric); Packaging: TapeAndReel; Part Status: Active; Price: 0.02; Series: GRM; Size / Dimension: 0.016" L x 0.008" W (0.40mm x 0.20mm); Supplier 1: DigiKey; Supplier Part Number 1: 490-13212-1-ND; Temperature Coefficient: X6T; Thickness (Max): 0.009" (0.22mm); Voltage - Rated: 2.5V
footprint CAP 01005_0402
pins: 1, 2

## GRM022D80G104ME15L
designator C?, comment 0.1µF
CAP CER 0.1UF 4V X6T 01005; Part Number: GRM022D80G104ME15L; Manufacturer: Murata Electronics; Tolerance: ±20%; Value: 0.1µF; Applications: General Purpose; Capacitance: 0.1µF; ComponentLink1Description: Datasheet; ComponentLink1URL: https://search.murata.co.jp/Ceramy/image/img/A01X/G101/ENG/GRM022D80G104ME15-01.pdf; ComponentLink2Description: DigiKey Link; ComponentLink2URL: http://digikey.com/product-detail/en/murata-electronics/GRM022D80G104ME15L/490-10386-1-ND/5026253; Device Package: 01005 (0402 Metric); LastUpdated: 9/2/2020 1:27:43 AM; Lifecycle Status: Active; Minimum Order: 1; Mounting Type: Surface Mount, MLCC; Operating Temperature: -55°C ~ 105°C; Package / Case: 01005 (0402 Metric); Packaging: TapeAndReel; Part Status: Active; Price: 0.01; Series: GRM; Size / Dimension: 0.016" L x 0.008" W (0.40mm x 0.20mm); Supplier 1: DigiKey; Supplier Part Number 1: 490-10386-1-ND; Temperature Coefficient: X6T; Thickness (Max): 0.009" (0.22mm); Voltage - Rated: 4V
footprint CAP 01005_0402
pins: 1, 2

## GRM022R60G104ME15L
designator C?, comment 0.1µF
CAP CER 0.1UF 4V X5R 01005; Part Number: GRM022R60G104ME15L; Manufacturer: Murata Electronics; Tolerance: ±20%; Value: 0.1µF; Applications: General Purpose; Capacitance: 0.1µF; ComponentLink1Description: Datasheet; ComponentLink1URL: https://search.murata.co.jp/Ceramy/image/img/A01X/G101/ENG/GRM022R60G104ME15-01.pdf; ComponentLink2Description: DigiKey Link; ComponentLink2URL: http://digikey.com/product-detail/en/murata-electronics/GRM022R60G104ME15L/490-7163-1-ND/3876924; Device Package: 01005 (0402 Metric); LastUpdated: 9/2/2020 1:27:43 AM; Lifecycle Status: Active; Minimum Order: 1; Mounting Type: Surface Mount, MLCC; Operating Temperature: -55°C ~ 85°C; Package / Case: 01005 (0402 Metric); Packaging: TapeAndReel; Part Status: Active; Price: 0.02; Series: GRM; Size / Dimension: 0.016" L x 0.008" W (0.40mm x 0.20mm); Supplier 1: DigiKey; Supplier Part Number 1: 490-7163-1-ND; Temperature Coefficient: X5R; Thickness (Max): 0.009" (0.22mm); Voltage - Rated: 4V
footprint CAP 01005_0402
pins: 1, 2

## GRM022R60G224ME14L
designator C?, comment 0.22µF
CAP CER 0.22UF 4V X5R 01005; Part Number: GRM022R60G224ME14L; Manufacturer: Murata Electronics; Tolerance: ±20%; Value: 0.22µF; Applications: General Purpose; Capacitance: 0.22µF; ComponentLink1Description: Datasheet; ComponentLink1URL: https://psearch.en.murata.com/capacitor/product/GRM022R60G224ME14%23.pdf; ComponentLink2Description: DigiKey Link; ComponentLink2URL: http://digikey.com/product-detail/en/murata-electronics/GRM022R60G224ME14L/490-13213-1-ND/5877421; Device Package: 01005 (0402 Metric); LastUpdated: 9/2/2020 1:27:44 AM; Lifecycle Status: Active; Minimum Order: 1; Mounting Type: Surface Mount, MLCC; Operating Temperature: -55°C ~ 85°C; Package / Case: 01005 (0402 Metric); Packaging: TapeAndReel; Part Status: Active; Price: 0.02; Series: GRM; Size / Dimension: 0.016" L x 0.008" W (0.40mm x 0.20mm); Supplier 1: DigiKey; Supplier Part Number 1: 490-13213-1-ND; Temperature Coefficient: X5R; Thickness (Max): 0.009" (0.22mm); Voltage - Rated: 4V
footprint CAP 01005_0402
pins: 1, 2

## GRM022R60G474ME15L
designator C?, comment 0.47µF
CAP CER 0.47UF 4V X5R 01005; Part Number: GRM022R60G474ME15L; Manufacturer: Murata Electronics; Tolerance: ±20%; Value: 0.47µF; Applications: General Purpose; Capacitance: 0.47µF; ComponentLink1Description: Datasheet; ComponentLink1URL: https://www.murata.com/~/media/webrenewal/support/library/catalog/products/capacitor/mlcc/c02e.ashx?la=en-us; ComponentLink2Description: DigiKey Link; ComponentLink2URL: http://digikey.com/product-detail/en/murata-electronics/GRM022R60G474ME15L/490-13214-1-ND/5877422; Device Package: 01005 (0402 Metric); LastUpdated: 9/2/2020 1:27:43 AM; Lifecycle Status: Active; Minimum Order: 1; Mounting Type: Surface Mount, MLCC; Operating Temperature: -55°C ~ 85°C; Package / Case: 01005 (0402 Metric); Packaging: TapeAndReel; Part Status: Active; Price: 0.06; Series: GRM; Size / Dimension: 0.016" L x 0.008" W (0.40mm x 0.20mm); Supplier 1: DigiKey; Supplier Part Number 1: 490-13214-1-ND; Temperature Coefficient: X5R; Thickness (Max): 0.010" (0.25mm); Voltage - Rated: 4V
footprint CAP 01005_0402
pins: 1, 2

## GRM022R60J103JE19L
designator C?, comment 10000pF
CAP CER 10000PF 6.3V X5R 01005; Part Number: GRM022R60J103JE19L; Manufacturer: Murata Electronics; Tolerance: ±5%; Value: 10000pF; Applications: General Purpose; Capacitance: 10000pF; ComponentLink1Description: Datasheet; ComponentLink1URL: https://search.murata.co.jp/Ceramy/image/img/A01X/G101/ENG/GRM022R60J103JE19-01.pdf; ComponentLink2Description: DigiKey Link; ComponentLink2URL: http://digikey.com/product-detail/en/murata-electronics/GRM022R60J103JE19L/490-14860-1-ND/6624017; Device Package: 01005 (0402 Metric); LastUpdated: 9/2/2020 1:27:44 AM; Lifecycle Status: Active; Minimum Order: 1; Mounting Type: Surface Mount, MLCC; Operating Temperature: -55°C ~ 85°C; Package / Case: 01005 (0402 Metric); Packaging: TapeAndReel; Part Status: Active; Price: 0.01; Series: GRM; Size / Dimension: 0.016" L x 0.008" W (0.40mm x 0.20mm); Supplier 1: DigiKey; Supplier Part Number 1: 490-14860-1-ND; Temperature Coefficient: X5R; Thickness (Max): 0.009" (0.22mm); Voltage - Rated: 6.3V
footprint CAP 01005_0402
pins: 1, 2